# Altium footprint library TC2030 Connector.PcbLib: 1 footprints
Each footprint in its own frame and in the unit in brackets; x right, y up, seen from the top. Pads: shape width x height; smd on the part's side, far side on the other; paste and mask are expansions set on the pad; w line width, h text height; cw(c..) or ccw(c..) is an arc to the next point about the centre after c.
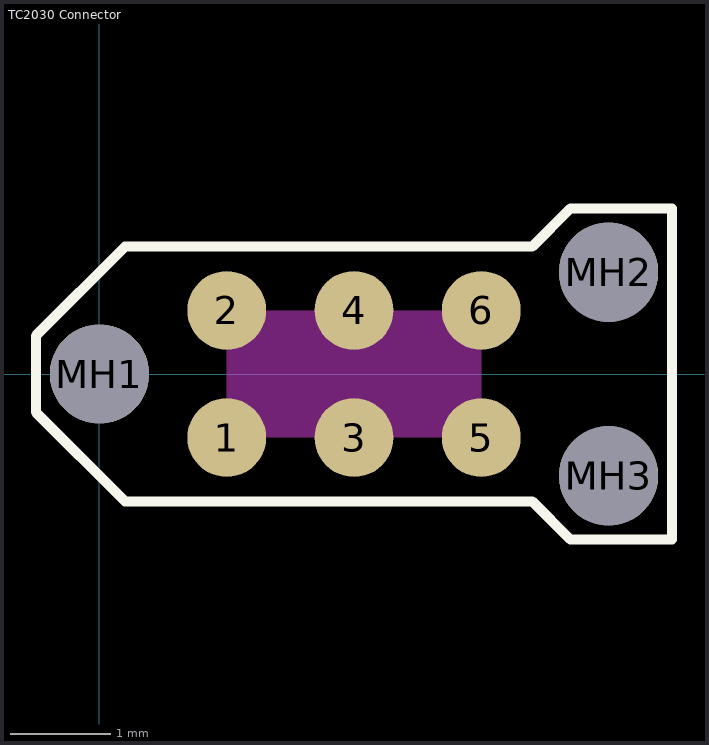
[diagram p0: the footprint, top view; thin cyan lines are the x and y axes]

## TC2030 Connector [mil]
pads (9):
  round 30.98 smd: 1(50,-25) 2(50,25) 3(100,-25) 4(100,25) 5(150,-25) 6(150,25)
  round 39.02 hole 39.02 unplated: MH1(0,0) MH2(200,40) MH3(200,-40)
Top Overlay:
  lines w3.94: -25,-15 10,-50 170,-50 185,-65 225,-65 225,0 225,65 185,65 170,50 10,50 -25,15 -25,0 -25,-15
Keep-Out Layer:
  rectangle: 50,-25 150,25